# Altium footprint library Power_DCDC_StepDown_Converters.PcbLib: 4 footprints
Each footprint in its own frame and in the unit in brackets; x right, y up, seen from the top. Pads: shape width x height; smd on the part's side, far side on the other; paste and mask are expansions set on the pad; w line width, h text height; cw(c..) or ccw(c..) is an arc to the next point about the centre after c.
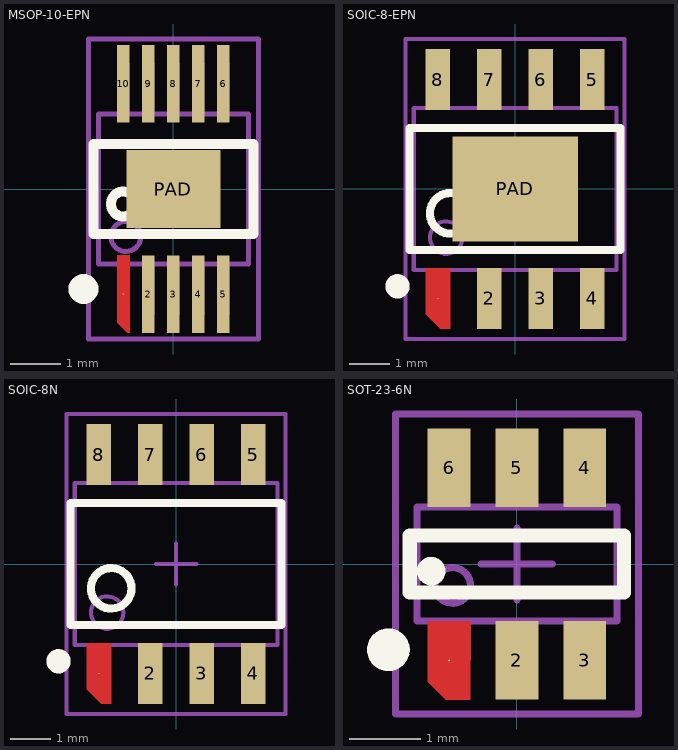
[diagram p0: the footprints below, top view; thin cyan lines are the x and y axes]

## MSOP-10-EPN [mm]
height 1.1
pads (11):
  round 0.025 smd: 1(-1,-2.1)
  rect 0.25x1.55 smd: 2(-0.5,-2.1) 3(0,-2.1) 4(0.5,-2.1) 5(1,-2.1) 6(1,2.1) 7(0.5,2.1) 8(0,2.1) 9(-0.5,2.1) 10(-1,2.1)
  rect 1.88x1.57 smd: PAD(0,0)
Top Layer:
  region: -0.875,-1.325 -1.125,-1.325 -1.125,-2.675 -0.925,-2.875 -0.875,-2.875
Top Overlay:
  circle w0.3: c-1.8,-2 r0.15
  circle w0.2: c-1,-0.3 r0.25
  lines w0.2: -1.6,-0.9 -1.6,0.9 1.6,0.9 1.6,-0.9 -1.6,-0.9
Top Package:
  circle w0.1: c-0.95,-0.95 r0.3
  lines w0.1: -1.075,-1.5 -1.075,-2.5 -0.925,-2.5 -0.925,-1.5 ; -1.075,1.5 -1.075,2.5 -0.925,2.5 -0.925,1.5 ; -0.575,-1.5 -0.575,-2.5 -0.425,-2.5 -0.425,-1.5 ; -0.575,1.5 -0.575,2.5 -0.425,2.5 -0.425,1.5 ; -0.075,-1.5 -0.075,-2.5 0.075,-2.5 0.075,-1.5 ; -0.075,1.5 -0.075,2.5 0.075,2.5 0.075,1.5 ; 0.425,-1.5 0.425,-2.5 0.575,-2.5 0.575,-1.5 ; 0.425,1.5 0.425,2.5 0.575,2.5 0.575,1.5 ; 0.925,-1.5 0.925,-2.5 1.075,-2.5 1.075,-1.5 ; 0.925,1.5 0.925,2.5 1.075,2.5 1.075,1.5 ; -1.5,-1.5 -1.5,1.5 1.5,1.5 1.5,-1.5 -1.5,-1.5
Top Comment:
  text ".Comment" at -2.129,-0.474 h1.5
Top Designator:
  text ".Designator" at -3.437,-0.451 h2
Top Border:
  lines w0.1: -0.5,0 0.5,0 ; 0,-0.5 0,0.5 ; -1.7,-3 -1.7,3 1.7,3 1.7,-3 -1.7,-3
3D body "MSOP-10.STEP": height 1.25, standoff 0, extent -1.5,-2.45 1.5,2.45

## SOIC-8-EPN [mm]
height 1.1
pads (9):
  round 0.025 smd: 1(-1.905,-2.7)
  rect 0.6x1.5 smd: 2(-0.635,-2.7) 3(0.635,-2.7) 4(1.905,-2.7) 5(1.905,2.7) 6(0.635,2.7) 7(-0.635,2.7) 8(-1.905,2.7)
  rect 3.1x2.6 smd: PAD(0,0)
Top Layer:
  region: -1.605,-1.95 -2.205,-1.95 -2.205,-3.095 -1.85,-3.45 -1.605,-3.45
Top Overlay:
  circle w0.2: c-1.6,-0.6 r0.5
  circle w0.3: c-2.9,-2.4 r0.15
  lines w0.2: -2.6,-1.5 2.6,-1.5 2.6,1.5 -2.6,1.5 -2.6,-1.5
Top Package:
  circle w0.1: c-1.7,-1.2 r0.4
  lines w0.1: -2.5,-2 2.5,-2 2.5,2 -2.5,2 -2.5,-2 ; -2.075,-3 -2.075,-2 -1.75,-2 -1.75,-3 -2.075,-3 ; -2.075,2 -1.75,2 -1.75,3 -2.075,3 -2.075,2 ; -0.804,-2.998 -0.479,-2.998 -0.479,-1.998 -0.804,-1.998 -0.804,-2.998 ; -0.804,1.998 -0.479,1.998 -0.479,2.998 -0.804,2.998 -0.804,1.998 ; 0.479,-2.998 0.479,-1.998 0.804,-1.998 0.804,-2.998 0.479,-2.998 ; 0.479,1.998 0.479,2.998 0.804,2.998 0.804,1.998 0.479,1.998 ; 1.749,-3.002 2.074,-3.002 2.074,-2.002 1.749,-2.002 1.749,-3.002 ; 1.75,2 2.075,2 2.075,3 1.75,3 1.75,2
Top Comment:
  text ".Comment" at -2.129,-0.474 h1.5
Top Designator:
  text ".Designator" at -3.437,-0.451 h2
Top Border:
  lines w0.1: -0.5,0 0.5,0 ; 0,-0.5 0,0.5 ; -2.7,-3.7 2.7,-3.7 2.7,3.7 -2.7,3.7 -2.7,-3.7
3D body "User Library-SOIC-8-1.step": height 1.75, standoff 0, extent -2.451,-3.002 2.449,2.998

## SOIC-8N [mm]
height 1.75
pads (8):
  round 0.025 smd: 1(-1.905,-2.7)
  rect 0.6x1.5 smd: 2(-0.635,-2.7) 3(0.635,-2.7) 4(1.905,-2.7) 5(1.905,2.7) 6(0.635,2.7) 7(-0.635,2.7) 8(-1.905,2.7)
Top Layer:
  region: -1.605,-1.95 -2.205,-1.95 -2.205,-3.095 -1.85,-3.45 -1.605,-3.45
Top Overlay:
  circle w0.3: c-2.9,-2.4 r0.15
  circle w0.2: c-1.6,-0.6 r0.5
  lines w0.2: -2.6,-1.5 -2.6,1.5 2.6,1.5 2.6,-1.5 -2.6,-1.5
Top Package:
  circle w0.1: c-1.7,-1.2 r0.4
  lines w0.1: -2.5,-2 -2.5,2 2.5,2 2.5,-2 -2.5,-2 ; -2.075,-3 -1.75,-3 -1.75,-2 -2.075,-2 -2.075,-3 ; -2.075,2 -2.075,3 -1.75,3 -1.75,2 -2.075,2 ; -0.804,-2.998 -0.804,-1.998 -0.479,-1.998 -0.479,-2.998 -0.804,-2.998 ; -0.804,1.998 -0.804,2.998 -0.479,2.998 -0.479,1.998 -0.804,1.998 ; 0.479,-2.998 0.804,-2.998 0.804,-1.998 0.479,-1.998 0.479,-2.998 ; 0.479,1.998 0.804,1.998 0.804,2.998 0.479,2.998 0.479,1.998 ; 1.749,-3.002 1.749,-2.002 2.074,-2.002 2.074,-3.002 1.749,-3.002 ; 1.75,2 1.75,3 2.075,3 2.075,2 1.75,2
Top Comment:
  text ".Comment" at -2.129,-0.474 h1.5
Top Designator:
  text ".Designator" at -3.437,-0.451 h2
Top Border:
  lines w0.1: -0.5,0 0.5,0 ; 0,-0.5 0,0.5 ; -2.7,-3.7 -2.7,3.7 2.7,3.7 2.7,-3.7 -2.7,-3.7
3D body "User Library-SOIC-8-1.step": height 1.75, standoff 0, extent -2.451,-3.002 2.449,2.998

## SOT-23-6N [mm]
height 1.7
pads (6):
  round 0.025 smd: 1(-0.95,-1.35)
  rect 0.6x1.1 smd: 2(0,-1.35) 3(0.95,-1.35) 4(0.95,1.35) 5(0,1.35) 6(-0.95,1.35)
Top Layer:
  region: -0.65,-0.8 -1.25,-0.8 -1.25,-1.65 -1,-1.9 -0.65,-1.9
Top Overlay:
  circle w0.3: c-1.8,-1.2 r0.15
  circle w0.2: c-1.2,-0.1 r0.1
  lines w0.2: -1.5,-0.4 -1.5,0.4 1.5,0.4 1.5,-0.4 -1.5,-0.4
Top Package:
  circle w0.1: c-0.9,-0.3 r0.25
  lines w0.1: -1.15,-0.8 -1.15,-1.4 -0.75,-1.4 -0.75,-0.8 ; -1.15,0.8 -1.15,1.4 -0.75,1.4 -0.75,0.8 ; -0.2,-0.8 -0.2,-1.4 0.2,-1.4 0.2,-0.8 ; -0.2,0.8 -0.2,1.4 0.2,1.4 0.2,0.8 ; 0.75,-0.8 0.75,-1.4 1.15,-1.4 1.15,-0.8 ; 0.75,0.8 0.75,1.4 1.15,1.4 1.15,0.8 ; -1.4,-0.8 1.4,-0.8 1.4,0.8 -1.4,0.8 -1.4,-0.8
Top Comment:
  text ".Comment" at -2.129,-0.474 h1.5
Top Designator:
  text ".Designator" at -3.437,-0.451 h2
Top Border:
  lines w0.1: -0.5,0 0.5,0 ; 0,-0.5 0,0.5 ; -1.7,-2.1 -1.7,2.1 1.7,2.1 1.7,-2.1 -1.7,-2.1
3D body "SOT-23-6.step": height 1.45, standoff 0, extent -1.45,-1.4 1.45,1.4